# EAGLE library part LED-RGB (library added_parts)
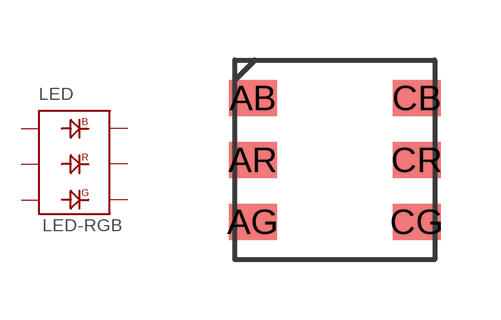
[diagram p10: symbol with the pads of PLCC-6; footprint PLCC-6]

Designator prefix LED

## LED-RGB  [PLCC-6]
AB  BLU-A
AG  GRN-A
AR  RED-A
CB  BLU-C
CG  GRN-C
CR  RED-C

## Footprint PLCC-6 (pad centres in mm)
smd 1.2 x 0.9: AB -2.05,1.55; AG -2.05,-1.55; AR -2.05,0; CB 2.05,1.55; CG 2.05,-1.55; CR 2.05,0